# EAGLE library part 555X-8 (library con-molex-minifit)
Mini FIT connector 8 way
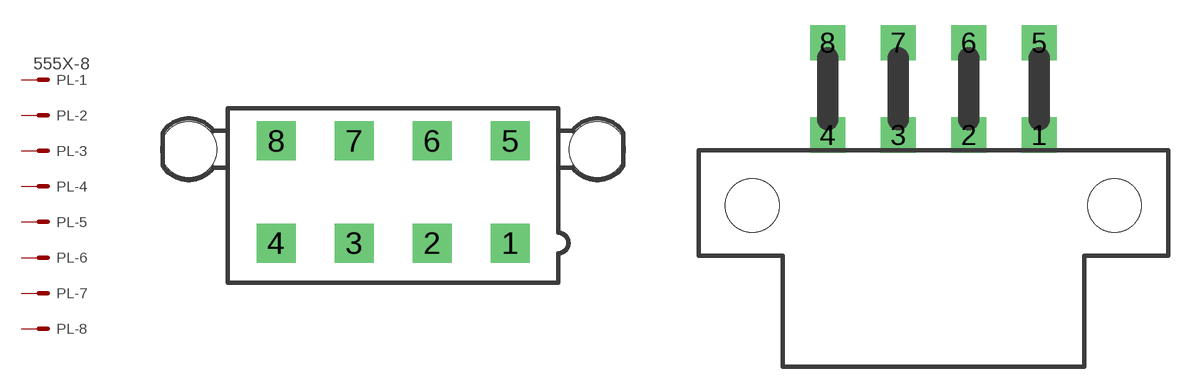
[diagram p1: symbol with the pads of 5566-8; footprints 5566-8, 5569-8]

Designator prefix PL; gates -1=MV -2=M -3=M -4=M -5=M -6=M -7=M -8=M

## 555X-8V  [5566-8]
1  -1:S  pas
2  -2:S  pas
3  -3:S  pas
4  -4:S  pas
5  -5:S  pas
6  -6:S  pas
7  -7:S  pas
8  -8:S  pas

## 555X-8H  [5569-8]
Pads as for 5566-8

## Footprint 5566-8 (pad centres in mm)
Mini FIT connector 8 pol
drill 1.4 square: 1 6.3,-2.75; 2 2.1,-2.75; 3 -2.1,-2.75; 4 -6.3,-2.75; 5 6.3,2.75; 6 2.1,2.75; 7 -2.1,2.75; 8 -6.3,2.75
hole 3 at 11,2.29
hole 3 at -11,2.29

## Footprint 5569-8 (pad centres in mm)
Mini FIT connector 8 R/A
drill 1.4 square: 1 6.3,0; 2 2.1,0; 3 -2.1,0; 4 -6.3,0; 5 6.3,5.5; 6 2.1,5.5; 7 -2.1,5.5; 8 -6.3,5.5
hole 3.2 at 10.8,-4.2
hole 3.2 at -10.8,-4.2